# EAGLE library part 61301511821 (library Board_to_Board_Connectors_rev15d)
WR-PHD 2.54mm Socket Header, 15 Pins =>Code : Con_BTB_SHD_2.54_1_THT_61301511821 <http://katalog.we-online.de/media/images/eican/Con_BTB_SHD_2.54_1_THT_6130xx11821_pf2.jpg> Details see: http://katalog.we-online.de/en/em/613_0xx_118_21 Created 2014-05-29, Karrer Zheng 2014 (C) Würth Elektronik
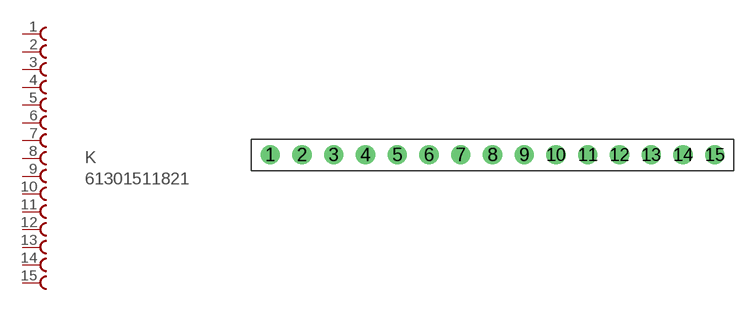
[diagram p99: symbol with the pads of 61301511821; footprint 61301511821]

Designator prefix K

## 61301511821  [61301511821]
1  1  pas
2  2  pas
3  3  pas
4  4  pas
5  5  pas
6  6  pas
7  7  pas
8  8  pas
9  9  pas
10  10  pas
11  11  pas
12  12  pas
13  13  pas
14  14  pas
15  15  pas

## Footprint 61301511821 (pad centres in mm)
WR-PHD 2.54mm Socket Header, 15 Pins
drill 1.02: 1 -17.78,0; 2 -15.24,0; 3 -12.7,0; 4 -10.16,0; 5 -7.62,0; 6 -5.08,0; 7 -2.54,0; 8 0,0; 9 2.54,0; 10 5.08,0; 11 7.62,0; 12 10.16,0; 13 12.7,0; 14 15.24,0; 15 17.78,0